# Altium footprint library DCM290P138T600A40.PcbLib: 1 footprints
Each footprint in its own frame and in the unit in brackets; x right, y up, seen from the top. Pads: shape width x height; smd on the part's side, far side on the other; paste and mask are expansions set on the pad; w line width, h text height; cw(c..) or ccw(c..) is an arc to the next point about the centre after c.
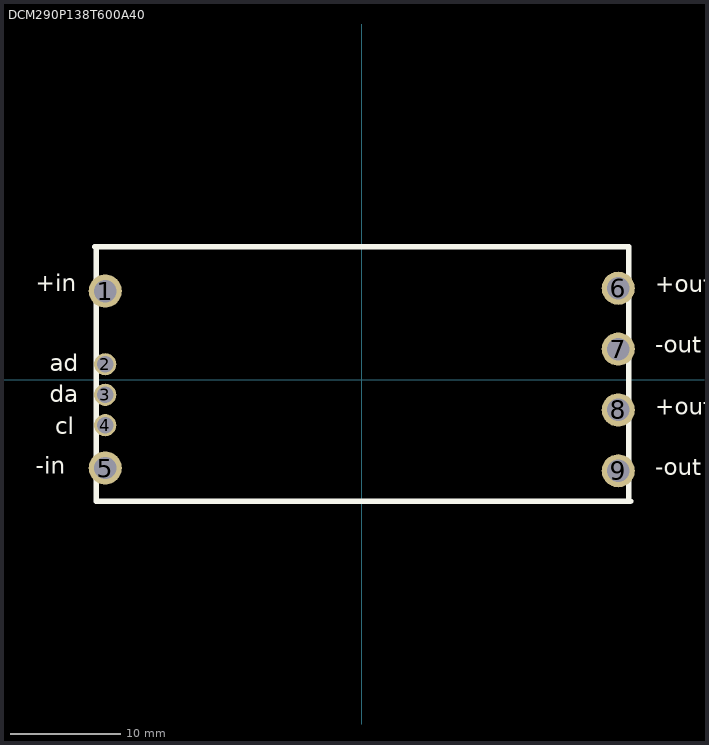
[diagram p0: the footprint, top view; thin cyan lines are the x and y axes]

## DCM290P138T600A40 [mm] "Vicor DC/DC converter"
pads (9):
  round 3 hole 2.03: 1(-23.19,8) 5(-23.19,-8) 6(23.19,8.25) 7(23.19,2.75) 8(23.19,-2.75) 9(23.19,-8.25)
  round 2 hole 1.52: 2(-23.19,1.38) 3(-23.19,-1.38) 4(-23.19,-4.13)
Top Overlay:
  lines w0.5: -24.15,12 24.15,12 ; -24,11.93 -24,-11 24.3,-11 ; 24.15,-11 24.15,11.93
  text "+out" at 26.543,7.874 h1.52
  text "+out" at 26.543,-3.175 h1.52
  text "-out" at 26.543,-8.636 h1.52
  text "-out" at 26.543,2.413 h1.52
  text "da" at -28.194,-2.032 h1.52
  text "+in" at -29.464,8 h1.52
  text "ad" at -28.194,0.762 h1.52
  text "cl" at -27.686,-4.953 h1.52
  text "-in" at -29.464,-8.509 h1.52
3D body: height 7.3, standoff 0, extent -24,-11 24,12